# EAGLE library part IC_FIN1019 (library akita)
LVDS Receiver&Driver (3.3V)
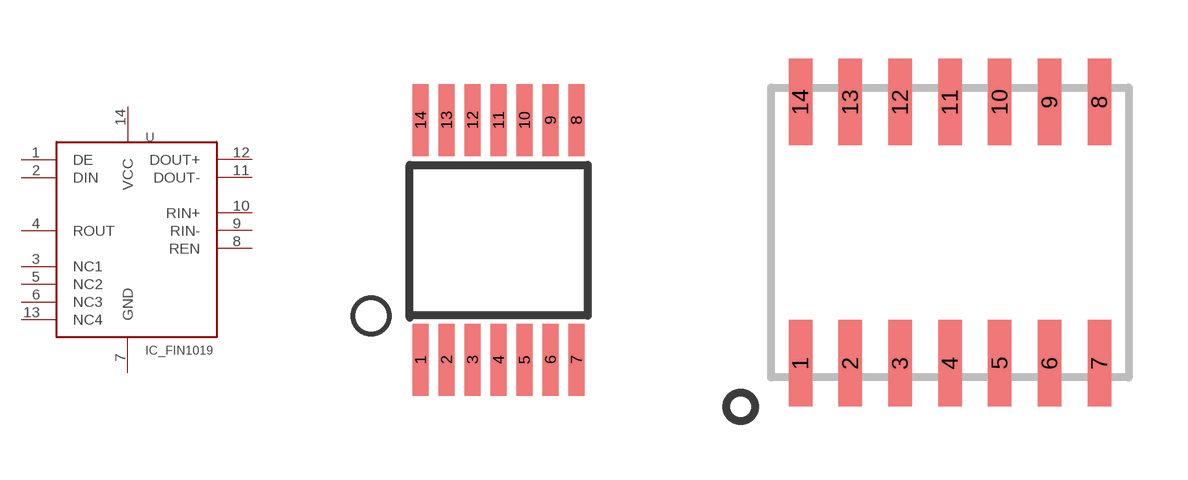
[diagram p115: symbol with the pads of TSSOP14; footprints TSSOP14, SOIC14]

Designator prefix U

## IC_FIN1019  [TSSOP14]
1  DE
2  DIN
3  NC1
4  ROUT
5  NC2
6  NC3
7  GND
8  REN
9  RIN-
10  RIN+
11  DOUT-
12  DOUT+
13  NC4
14  VCC

## IC_FIN1019SO  [SOIC14]
Pads as for TSSOP14

## Footprint TSSOP14 (pad centres in mm)
smd 0.4 x 1.8: 1 -1.625,-3; 2 -0.975,-3; 3 -0.325,-3; 4 0.325,-3; 5 0.975,-3; 6 1.625,-3; 7 2.275,-3; 8 2.275,3; 9 1.625,3; 10 0.975,3; 11 0.325,3; 12 -0.325,3; 13 -0.975,3; 14 -1.625,3

## Footprint SOIC14 (pad centres in mm)
smd 0.6 x 2.2: 1 -3.81,-3.33; 2 -2.54,-3.33; 3 -1.27,-3.33; 4 0,-3.33; 5 1.27,-3.33; 6 2.54,-3.33; 7 3.81,-3.33; 8 3.81,3.33; 9 2.54,3.33; 10 1.27,3.33; 11 0,3.33; 12 -1.27,3.33; 13 -2.54,3.33; 14 -3.81,3.33